# EAGLE library part USIM_CONN (library dooba)
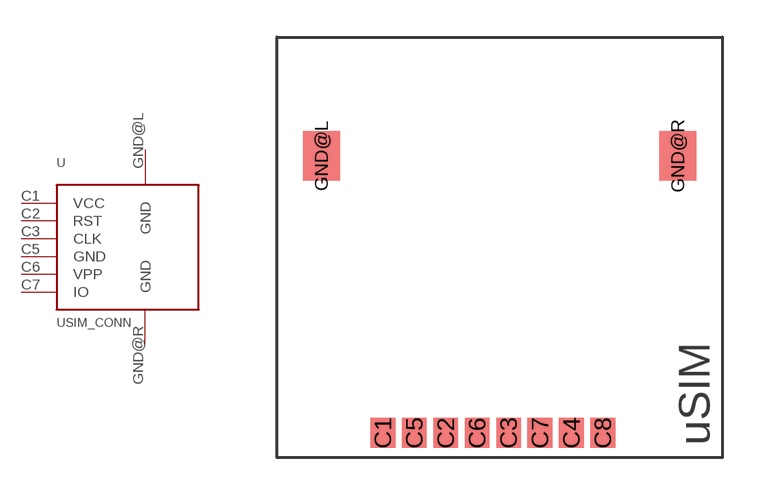
[diagram p49: symbol with the pads of WE_USIM_HINGE; footprint WE_USIM_HINGE]

Designator prefix U

## USIM_CONN  [WE_USIM_HINGE]
C1  VCC
C2  RST
C3  CLK
C5  GND
C6  VPP
C7  IO
GND@L  GND
GND@R  GND

## Footprint WE_USIM_HINGE (pad centres in mm)
smd 1 x 1.2: C1 -4.72,0; C2 -2.18,0; C3 0.36,0; C4 2.9,0; C5 -3.45,0; C6 -0.91,0; C7 1.63,0; C8 4.17,0
smd 1.5 x 2: GND@L -7.2,11.2; GND@R 7.2,11.2